# Altium footprint library con-molex-micro-fit-3_0.PCBLIB: 194 footprints (part 8 of 13)
Each footprint in its own frame and in the unit in brackets; x right, y up, seen from the top. Pads: shape width x height; smd on the part's side, far side on the other; paste and mask are expansions set on the pad; w line width, h text height; cw(c..) or ccw(c..) is an arc to the next point about the centre after c.
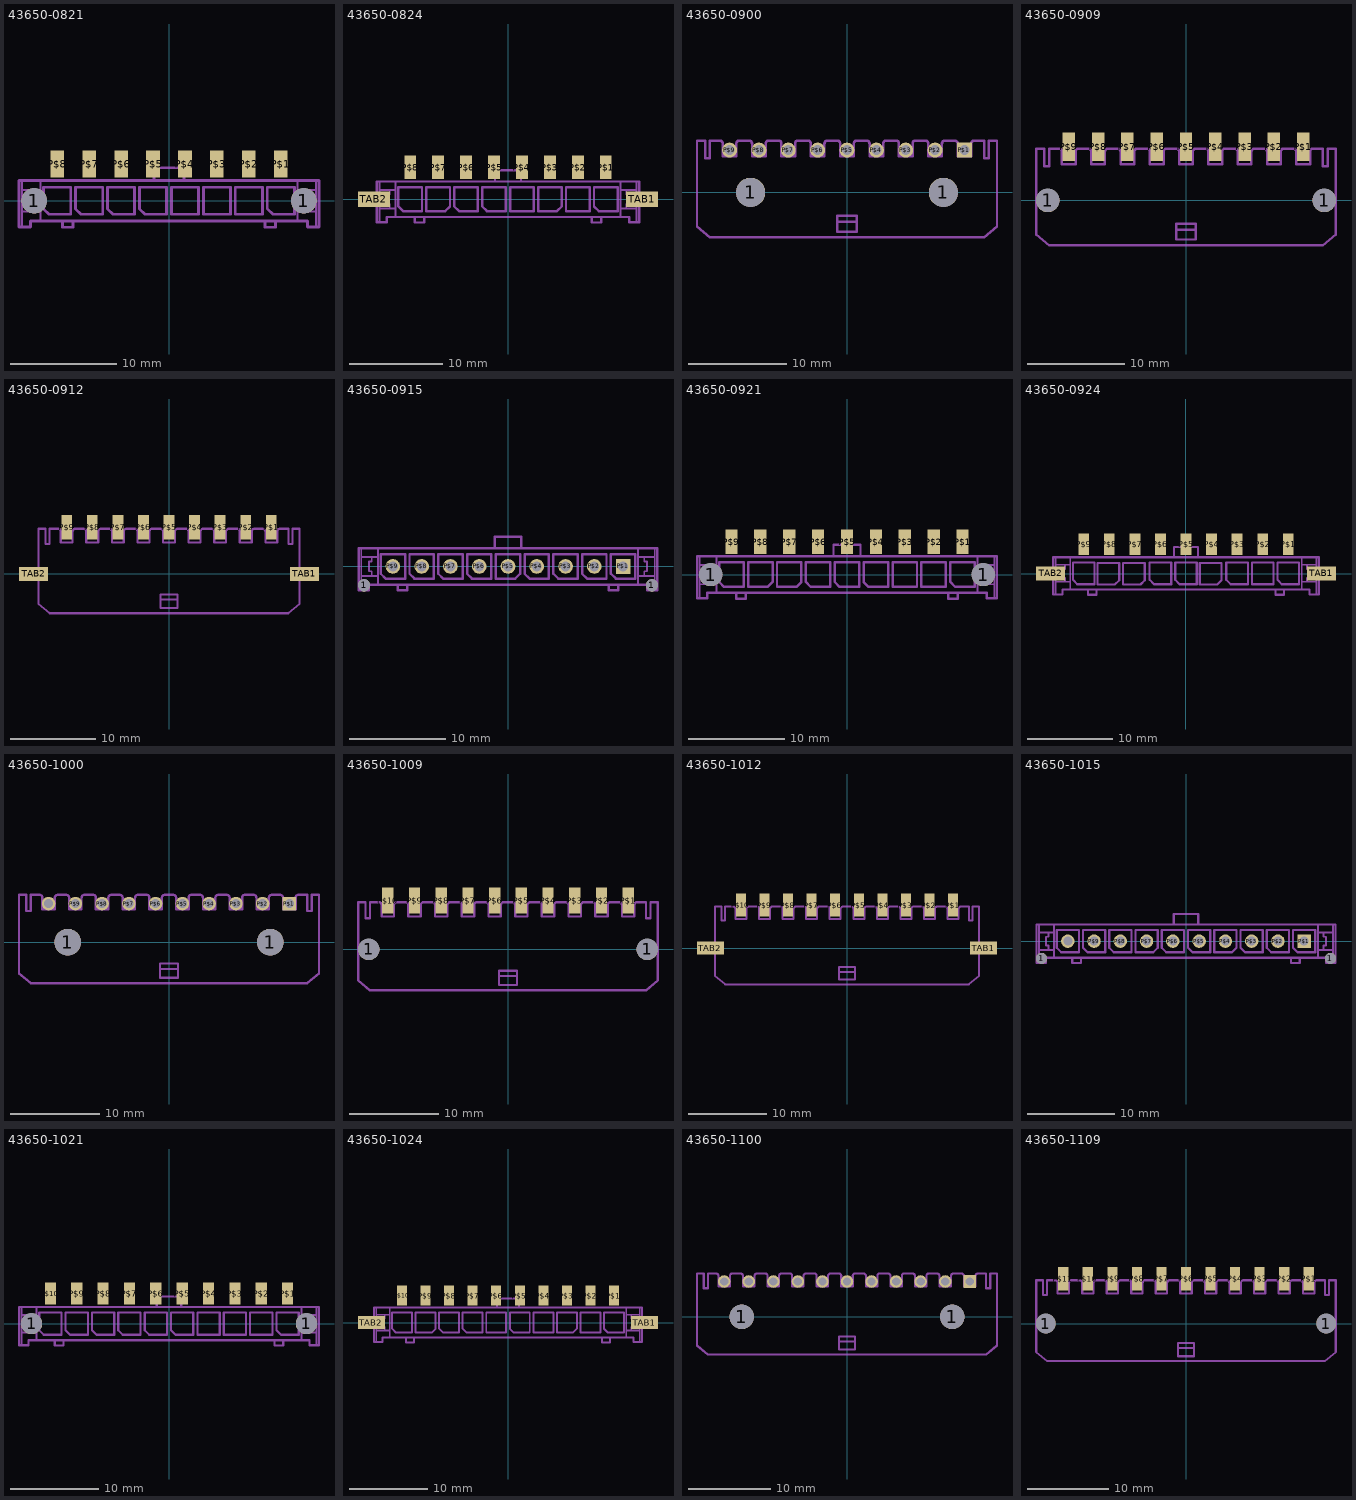
[diagram p7: the footprints below, top view; thin cyan lines are the x and y axes]

## 43650-0821 [mm]
pads (10):
  round 2.41 hole 2.41: 1(-12.65,0) 1(12.65,0)
  rect 1.27x2.54 smd: P$1(10.5,3.43) P$2(7.5,3.43) P$3(4.5,3.43) P$4(1.5,3.43) P$5(-1.5,3.43) P$6(-4.5,3.43) P$7(-7.5,3.43) P$8(-10.5,3.43)
Mechanical 2:
  lines w0.2: -13.8,-2.47 -13.8,-1 ; -13.8,1.9 -13.8,1 ; -12.07,-1.9 -12.07,-1 ; -12.07,1.9 -12.07,1 ; 12.07,-1.9 12.07,-1 ; 12.07,1.9 12.07,1 ; 13.8,-2.47 13.8,-1 ; 13.8,1.9 13.8,1 ; -13.8,-1 -13.8,1 ; -13.8,-1 -12.7,-1 ; -13.8,1 -12.7,1 ; -12.7,-1 -12.07,-1 ; -12.7,-1 -12.7,-0.5 -13,-0.5 -13,0.5 -12.7,0.5 -12.7,1 ; -12.7,1 -12.07,1 ; -12.07,-1 -12.07,1 ; 12.07,-1 12.07,1 ; 12.07,-1 12.7,-1 ; 12.07,1 12.7,1 ; 12.7,-1 13.8,-1 ; 12.7,-1 12.7,-0.5 13,-0.5 13,0.5 12.7,0.5 12.7,1 ; 12.7,1 13.8,1 ; 13.8,-1 13.8,1
  lines w0.254: -10,-1.9 -9,-1.9 ; -10,-1.9 -12.07,-1.9 -13,-1.9 -13,-2.47 -13.8,-2.47 -14.075,-2.47 -14.075,1.9 -13.8,1.9 -12.07,1.9 -1.4,1.9 ; -10,-1.9 -10,-2.5 -9,-2.5 -9,-1.9 ; -9,-1.9 9,-1.9 ; -1.4,1.9 1.4,1.9 ; -1.4,1.9 -1.4,3.1 1.4,3.1 1.4,1.9 ; 1.4,1.9 12.07,1.9 13.8,1.9 14.075,1.9 14.075,-2.47 13.8,-2.47 13,-2.47 13,-1.9 12.07,-1.9 10,-1.9 ; 9,-1.9 10,-1.9 ; 9,-1.9 9,-2.5 10,-2.5 10,-1.9 ; -11.77,-0.762 -11.77,1.27 -9.23,1.27 -9.23,-1.27 -11.262,-1.27 -11.77,-0.762 ; -8.77,-0.762 -8.77,1.27 -6.23,1.27 -6.23,-1.27 -8.262,-1.27 -8.77,-0.762 ; -5.77,-0.762 -5.77,1.27 -3.23,1.27 -3.23,-1.27 -5.262,-1.27 -5.77,-0.762 ; -2.77,-0.762 -2.77,1.27 -0.23,1.27 -0.23,-1.27 -2.262,-1.27 -2.77,-0.762 ; 0.23,-1.27 2.77,-1.27 2.77,1.27 0.23,1.27 0.23,-1.27 ; 3.23,-1.27 5.77,-1.27 5.77,1.27 3.23,1.27 3.23,-1.27 ; 6.23,-1.27 8.77,-1.27 8.77,1.27 6.23,1.27 6.23,-1.27 ; 9.23,-0.762 9.23,1.27 11.77,1.27 11.77,-1.27 9.738,-1.27 9.23,-0.762

## 43650-0824 [mm]
pads (10):
  rect 1.27x2.54 smd: P$1(10.5,3.43) P$2(7.5,3.43) P$3(4.5,3.43) P$4(1.5,3.43) P$5(-1.5,3.43) P$6(-4.5,3.43) P$7(-7.5,3.43) P$8(-10.5,3.43)
  rect 3.43x1.65 smd: TAB1(14.39,0) TAB2(-14.39,0)
Mechanical 2:
  lines w0.2: -13.8,-2.47 -13.8,-1 ; -13.8,1.9 -13.8,1 ; -12.07,-1.9 -12.07,-1 ; -12.07,1.9 -12.07,1 ; 12.07,-1.9 12.07,-1 ; 12.07,1.9 12.07,1 ; 13.8,-2.47 13.8,-1 ; 13.8,1.9 13.8,1 ; -13.8,-1 -13.8,1 ; -13.8,-1 -12.7,-1 ; -13.8,1 -12.7,1 ; -12.7,-1 -12.07,-1 ; -12.7,-1 -12.7,-0.5 -13,-0.5 -13,0.5 -12.7,0.5 -12.7,1 ; -12.7,1 -12.07,1 ; -12.07,-1 -12.07,1 ; 12.07,-1 12.07,1 ; 12.07,-1 12.7,-1 ; 12.07,1 12.7,1 ; 12.7,-1 13.8,-1 ; 12.7,-1 12.7,-0.5 13,-0.5 13,0.5 12.7,0.5 12.7,1 ; 12.7,1 13.8,1 ; 13.8,-1 13.8,1
  lines w0.254: -10,-1.9 -9,-1.9 ; -10,-1.9 -12.07,-1.9 -13,-1.9 -13,-2.47 -13.8,-2.47 -14.075,-2.47 -14.075,1.9 -13.8,1.9 -12.07,1.9 -1.4,1.9 ; -10,-1.9 -10,-2.5 -9,-2.5 -9,-1.9 ; -9,-1.9 9,-1.9 ; -1.4,1.9 1.4,1.9 ; -1.4,1.9 -1.4,3.1 1.4,3.1 1.4,1.9 ; 1.4,1.9 12.07,1.9 13.8,1.9 14.075,1.9 14.075,-2.47 13.8,-2.47 13,-2.47 13,-1.9 12.07,-1.9 10,-1.9 ; 9,-1.9 10,-1.9 ; 9,-1.9 9,-2.5 10,-2.5 10,-1.9 ; -11.77,-0.762 -11.77,1.27 -9.23,1.27 -9.23,-1.27 -11.262,-1.27 -11.77,-0.762 ; -5.77,-0.762 -5.77,1.27 -3.23,1.27 -3.23,-1.27 -5.262,-1.27 -5.77,-0.762 ; -2.77,-0.762 -2.77,1.27 -0.23,1.27 -0.23,-1.27 -2.262,-1.27 -2.77,-0.762 ; 0.23,-1.27 2.77,-1.27 2.77,1.27 0.23,1.27 0.23,-1.27 ; 6.23,-1.27 8.77,-1.27 8.77,1.27 6.23,1.27 6.23,-1.27 ; 9.23,-0.762 9.23,1.27 11.77,1.27 11.77,-1.27 9.738,-1.27 9.23,-0.762
Mechanical 3:
  lines w0.254: -8.77,-1.27 -8.77,1.27 -6.23,1.27 -6.23,-0.762 -6.738,-1.27 -8.77,-1.27 ; 3.23,-1.27 3.23,1.27 5.77,1.27 5.77,-0.762 5.262,-1.27 3.23,-1.27

## 43650-0900 [mm]
pads (11):
  round 3 hole 3: 1(-9.85,0) 1(9.85,0)
  rect 1.53x1.53 hole 1.02: P$1(12,4.32)
  round 1.53 hole 1.02: P$2(9,4.32) P$3(6,4.32) P$4(3,4.32) P$5(0,4.32) P$6(-3,4.32) P$7(-6,4.32) P$8(-9,4.32) P$9(-12,4.32)
Mechanical 2:
  lines w0.254: -1,-3 -1,-4 1,-4 1,-3 ; -1,-3 -1,-2.4 1,-2.4 1,-3 ; -1,-3 1,-3 ; -15.32,-3.5 -15.32,5.3 -14.5,5.3 -14.5,3.5 -14,3.5 -14,5.3 -13,5.3 cw(c-13,5) -12.7,5 -12.7,3.7 -11.3,3.7 -11.3,5 cw(c-11,5) -11,5.3 -10,5.3 cw(c-10,5) -9.7,5 -9.7,3.7 -8.3,3.7 -8.3,5 cw(c-8,5) -8,5.3 -7,5.3 cw(c-7,5) -6.7,5 -6.7,3.7 -5.3,3.7 -5.3,5 cw(c-5,5) -5,5.3 -4,5.3 cw(c-4,5) -3.7,5 -3.7,3.7 -2.3,3.7 -2.3,5 cw(c-2,5) -2,5.3 -1,5.3 cw(c-1,5) -0.7,5 -0.7,3.7 0.7,3.7 0.7,5 cw(c1,5) 1,5.3 2,5.3 cw(c2,5) 2.3,5 2.3,3.7 3.7,3.7 3.7,5 cw(c4,5) 4,5.3 5,5.3 cw(c5,5) 5.3,5 5.3,3.7 6.7,3.7 6.7,5 cw(c7,5) 7,5.3 8,5.3 cw(c8,5) 8.3,5 8.3,3.7 9.7,3.7 9.7,5 cw(c10,5) 10,5.3 11,5.3 cw(c10.95,4.95) 11.3,5 11.3,3.7 12.7,3.7 12.7,5 cw(c13,5) 13,5.3 14,5.3 14,3.5 14.5,3.5 14.5,5.3 15.32,5.3 15.32,-3.5 14,-4.6 -14,-4.6 -15.32,-3.5

## 43650-0909 [mm]
pads (11):
  round 2.41 hole 2.41: 1(-14.15,0) 1(14.15,0)
  rect 1.27x2.92 smd: P$1(12,5.48) P$2(9,5.48) P$3(6,5.48) P$4(3,5.48) P$5(0,5.48) P$6(-3,5.48) P$7(-6,5.48) P$8(-9,5.48) P$9(-12,5.48)
Mechanical 2:
  lines w0.254: -1,-3 -1,-4 1,-4 1,-3 ; -1,-3 -1,-2.4 1,-2.4 1,-3 ; -1,-3 1,-3 ; -15.32,-3.5 -15.32,5.3 -14.5,5.3 -14.5,3.5 -14,3.5 -14,5.3 -13,5.3 cw(c-13,5) -12.7,5 -12.7,3.7 -11.3,3.7 -11.3,5 cw(c-11,5) -11,5.3 -10,5.3 cw(c-10,5) -9.7,5 -9.7,3.7 -8.3,3.7 -8.3,5 cw(c-8,5) -8,5.3 -7,5.3 cw(c-7,5) -6.7,5 -6.7,3.7 -5.3,3.7 -5.3,5 cw(c-5,5) -5,5.3 -4,5.3 cw(c-4,5) -3.7,5 -3.7,3.7 -2.3,3.7 -2.3,5 cw(c-2,5) -2,5.3 -1,5.3 cw(c-1,5) -0.7,5 -0.7,3.7 0.7,3.7 0.7,5 cw(c1,5) 1,5.3 2,5.3 cw(c2,5) 2.3,5 2.3,3.7 3.7,3.7 3.7,5 cw(c4,5) 4,5.3 5,5.3 cw(c5,5) 5.3,5 5.3,3.7 6.7,3.7 6.7,5 cw(c7,5) 7,5.3 8,5.3 cw(c8,5) 8.3,5 8.3,3.7 9.7,3.7 9.7,5 cw(c10,5) 10,5.3 11,5.3 cw(c10.95,4.95) 11.3,5 11.3,3.7 12.7,3.7 12.7,5 cw(c13,5) 13,5.3 14,5.3 14,3.5 14.5,3.5 14.5,5.3 15.32,5.3 15.32,-3.5 14,-4.6 -14,-4.6 -15.32,-3.5

## 43650-0912 [mm]
pads (11):
  rect 1.27x2.92 smd: P$1(12,5.48) P$2(9,5.48) P$3(6,5.48) P$4(3,5.48) P$5(0,5.48) P$6(-3,5.48) P$7(-6,5.48) P$8(-9,5.48) P$9(-12,5.48)
  rect 3.43x1.65 smd: TAB1(15.88,0) TAB2(-15.88,0)
Mechanical 2:
  lines w0.254: -1,-3 -1,-4 1,-4 1,-3 ; -1,-3 -1,-2.4 1,-2.4 1,-3 ; -1,-3 1,-3 ; -15.32,-3.5 -15.32,5.3 -14.5,5.3 -14.5,3.5 -14,3.5 -14,5.3 -13,5.3 cw(c-13,5) -12.7,5 -12.7,3.7 -11.3,3.7 -11.3,5 cw(c-11,5) -11,5.3 -10,5.3 cw(c-10,5) -9.7,5 -9.7,3.7 -8.3,3.7 -8.3,5 cw(c-8,5) -8,5.3 -7,5.3 cw(c-7,5) -6.7,5 -6.7,3.7 -5.3,3.7 -5.3,5 cw(c-5,5) -5,5.3 -4,5.3 cw(c-4,5) -3.7,5 -3.7,3.7 -2.3,3.7 -2.3,5 cw(c-2,5) -2,5.3 -1,5.3 cw(c-1,5) -0.7,5 -0.7,3.7 0.7,3.7 0.7,5 cw(c1,5) 1,5.3 2,5.3 cw(c2,5) 2.3,5 2.3,3.7 3.7,3.7 3.7,5 cw(c4,5) 4,5.3 5,5.3 cw(c5,5) 5.3,5 5.3,3.7 6.7,3.7 6.7,5 cw(c7,5) 7,5.3 8,5.3 cw(c8,5) 8.3,5 8.3,3.7 9.7,3.7 9.7,5 cw(c10,5) 10,5.3 11,5.3 cw(c10.95,4.95) 11.3,5 11.3,3.7 12.7,3.7 12.7,5 cw(c13,5) 13,5.3 14,5.3 14,3.5 14.5,3.5 14.5,5.3 15.32,5.3 15.32,-3.5 14,-4.6 -14,-4.6 -15.32,-3.5

## 43650-0915 [mm]
pads (11):
  round 1.27 hole 1.27: 1(-15,-1.96) 1(15,-1.96)
  rect 1.53x1.53 hole 1.02: P$1(12,0)
  round 1.53 hole 1.02: P$2(9,0) P$3(6,0) P$4(3,0) P$5(0,0) P$6(-3,0) P$7(-6,0) P$8(-9,0) P$9(-12,0)
Mechanical 2:
  lines w0.2: -15.3,-2.47 -15.3,-1 ; -15.3,1.9 -15.3,1 ; -13.57,-1.9 -13.57,-1 ; -13.57,1.9 -13.57,1 ; 13.57,-1.9 13.57,-1 ; 13.57,1.9 13.57,1 ; 15.3,-2.47 15.3,-1 ; 15.3,1.9 15.3,1 ; -15.3,-1 -15.3,1 ; -15.3,-1 -14.2,-1 ; -15.3,1 -14.2,1 ; -14.2,-1 -13.57,-1 ; -14.2,-1 -14.2,-0.5 -14.5,-0.5 -14.5,0.5 -14.2,0.5 -14.2,1 ; -14.2,1 -13.57,1 ; -13.57,-1 -13.57,1 ; 13.57,-1 13.57,1 ; 13.57,-1 14.2,-1 ; 13.57,1 14.2,1 ; 14.2,-1 15.3,-1 ; 14.2,-1 14.2,-0.5 14.5,-0.5 14.5,0.5 14.2,0.5 14.2,1 ; 14.2,1 15.3,1 ; 15.3,-1 15.3,1
  lines w0.254: -11.5,-1.9 -10.5,-1.9 ; -11.5,-1.9 -13.57,-1.9 -14.5,-1.9 -14.5,-2.47 -15.3,-2.47 -15.575,-2.47 -15.575,1.9 -15.3,1.9 -13.57,1.9 -1.4,1.9 ; -11.5,-1.9 -11.5,-2.5 -10.5,-2.5 -10.5,-1.9 ; -10.5,-1.9 10.5,-1.9 ; -1.4,1.9 1.4,1.9 ; -1.4,1.9 -1.4,3.1 1.4,3.1 1.4,1.9 ; 1.4,1.9 13.57,1.9 15.3,1.9 15.575,1.9 15.575,-2.47 15.3,-2.47 14.5,-2.47 14.5,-1.9 13.57,-1.9 11.5,-1.9 ; 10.5,-1.9 11.5,-1.9 ; 10.5,-1.9 10.5,-2.5 11.5,-2.5 11.5,-1.9 ; -13.27,-0.762 -13.27,1.27 -10.73,1.27 -10.73,-1.27 -12.762,-1.27 -13.27,-0.762 ; -10.27,-0.762 -10.27,1.27 -7.73,1.27 -7.73,-1.27 -9.762,-1.27 -10.27,-0.762 ; -7.27,-0.762 -7.27,1.27 -4.73,1.27 -4.73,-1.27 -6.762,-1.27 -7.27,-0.762 ; -4.27,-0.762 -4.27,1.27 -1.73,1.27 -1.73,-1.27 -3.762,-1.27 -4.27,-0.762 ; -1.27,-1.27 -1.27,1.27 1.27,1.27 1.27,-0.762 0.762,-1.27 -1.27,-1.27 ; 1.73,-0.762 1.73,1.27 4.27,1.27 4.27,-1.27 2.238,-1.27 1.73,-0.762 ; 4.73,-0.762 4.73,1.27 7.27,1.27 7.27,-1.27 5.238,-1.27 4.73,-0.762 ; 7.73,-0.762 7.73,1.27 10.27,1.27 10.27,-1.27 8.238,-1.27 7.73,-0.762 ; 10.73,-0.762 10.73,1.27 13.27,1.27 13.27,-1.27 11.238,-1.27 10.73,-0.762

## 43650-0921 [mm]
pads (11):
  round 2.41 hole 2.41: 1(-14.15,0) 1(14.15,0)
  rect 1.27x2.54 smd: P$1(12,3.43) P$2(9,3.43) P$3(6,3.43) P$4(3,3.43) P$5(0,3.43) P$6(-3,3.43) P$7(-6,3.43) P$8(-9,3.43) P$9(-12,3.43)
Mechanical 2:
  lines w0.2: -15.3,-2.47 -15.3,-1 ; -15.3,1.9 -15.3,1 ; -13.57,-1.9 -13.57,-1 ; -13.57,1.9 -13.57,1 ; 13.57,-1.9 13.57,-1 ; 13.57,1.9 13.57,1 ; 15.3,-2.47 15.3,-1 ; 15.3,1.9 15.3,1 ; -15.3,-1 -15.3,1 ; -15.3,-1 -14.2,-1 ; -15.3,1 -14.2,1 ; -14.2,-1 -13.57,-1 ; -14.2,-1 -14.2,-0.5 -14.5,-0.5 -14.5,0.5 -14.2,0.5 -14.2,1 ; -14.2,1 -13.57,1 ; -13.57,-1 -13.57,1 ; 13.57,-1 13.57,1 ; 13.57,-1 14.2,-1 ; 13.57,1 14.2,1 ; 14.2,-1 15.3,-1 ; 14.2,-1 14.2,-0.5 14.5,-0.5 14.5,0.5 14.2,0.5 14.2,1 ; 14.2,1 15.3,1 ; 15.3,-1 15.3,1
  lines w0.254: -11.5,-1.9 -10.5,-1.9 ; -11.5,-1.9 -13.57,-1.9 -14.5,-1.9 -14.5,-2.47 -15.3,-2.47 -15.575,-2.47 -15.575,1.9 -15.3,1.9 -13.57,1.9 -1.4,1.9 ; -11.5,-1.9 -11.5,-2.5 -10.5,-2.5 -10.5,-1.9 ; -10.5,-1.9 10.5,-1.9 ; -1.4,1.9 1.4,1.9 ; -1.4,1.9 -1.4,3.1 1.4,3.1 1.4,1.9 ; 1.4,1.9 13.57,1.9 15.3,1.9 15.575,1.9 15.575,-2.47 15.3,-2.47 14.5,-2.47 14.5,-1.9 13.57,-1.9 11.5,-1.9 ; 10.5,-1.9 11.5,-1.9 ; 10.5,-1.9 10.5,-2.5 11.5,-2.5 11.5,-1.9 ; -13.27,-0.762 -13.27,1.27 -10.73,1.27 -10.73,-1.27 -12.762,-1.27 -13.27,-0.762 ; -10.27,-1.27 -10.27,1.27 -7.73,1.27 -7.73,-0.762 -8.238,-1.27 -10.27,-1.27 ; -7.27,-1.27 -7.27,1.27 -4.73,1.27 -4.73,-0.762 -5.238,-1.27 -7.27,-1.27 ; -4.27,-0.762 -4.27,1.27 -1.73,1.27 -1.73,-1.27 -3.762,-1.27 -4.27,-0.762 ; -1.27,-0.762 -1.27,1.27 1.27,1.27 1.27,-1.27 -0.762,-1.27 -1.27,-0.762 ; 1.73,-0.762 1.73,1.27 4.27,1.27 4.27,-1.27 2.238,-1.27 1.73,-0.762 ; 4.73,-1.27 7.27,-1.27 7.27,1.27 4.73,1.27 4.73,-1.27 ; 7.73,-1.27 10.27,-1.27 10.27,1.27 7.73,1.27 7.73,-1.27 ; 10.73,-0.762 10.73,1.27 13.27,1.27 13.27,-1.27 11.238,-1.27 10.73,-0.762

## 43650-0924 [mm]
pads (11):
  rect 1.27x2.54 smd: P$1(12.036,3.503) P$2(9.036,3.503) P$3(6.036,3.503) P$4(3.036,3.503) P$5(0.036,3.503) P$6(-2.964,3.503) P$7(-5.964,3.503) P$8(-8.964,3.503) P$9(-11.964,3.503)
  rect 3.43x1.65 smd: TAB1(15.926,0.073) TAB2(-15.854,0.073)
Mechanical 2:
  lines w0.2: -15.264,-2.397 -15.264,-0.927 ; -15.264,1.973 -15.264,1.073 ; -13.534,-1.827 -13.534,-0.927 ; -13.534,1.973 -13.534,1.073 ; 13.607,-1.827 13.607,-0.927 ; 13.607,1.973 13.607,1.073 ; 15.337,-2.397 15.337,-0.927 ; 15.337,1.973 15.337,1.073 ; -15.264,-0.927 -15.264,1.073 ; -15.264,-0.927 -14.164,-0.927 ; -15.264,1.073 -14.164,1.073 ; -14.164,-0.927 -13.534,-0.927 ; -14.164,-0.927 -14.164,-0.427 -14.464,-0.427 -14.464,0.573 -14.164,0.573 -14.164,1.073 ; -14.164,1.073 -13.534,1.073 ; -13.534,-0.927 -13.534,1.073 ; 13.607,-0.927 13.607,1.073 ; 13.607,-0.927 14.236,-0.927 ; 13.607,1.073 14.236,1.073 ; 14.236,-0.927 15.337,-0.927 ; 14.236,-0.927 14.236,-0.427 14.536,-0.427 14.536,0.573 14.236,0.573 14.236,1.073 ; 14.236,1.073 15.337,1.073 ; 15.337,-0.927 15.337,1.073
  lines w0.254: -11.464,-1.827 -10.464,-1.827 ; -11.464,-1.827 -13.534,-1.827 -14.464,-1.827 -14.464,-2.397 -15.264,-2.397 -15.539,-2.397 -15.539,1.973 -15.264,1.973 -13.534,1.973 -1.364,1.973 ; -11.464,-1.827 -11.464,-2.427 -10.464,-2.427 -10.464,-1.827 ; -10.464,-1.827 10.536,-1.827 ; -1.364,1.973 1.436,1.973 ; -1.364,1.973 -1.364,3.173 1.436,3.173 1.436,1.973 ; 1.436,1.973 13.607,1.973 15.337,1.973 15.611,1.973 15.611,-2.397 15.337,-2.397 14.536,-2.397 14.536,-1.827 13.607,-1.827 11.536,-1.827 ; 10.536,-1.827 11.536,-1.827 ; 10.536,-1.827 10.536,-2.427 11.536,-2.427 11.536,-1.827 ; -13.234,-0.689 -13.234,1.343 -10.694,1.343 -10.694,-1.197 -12.726,-1.197 -13.234,-0.689 ; -10.343,-1.234 -10.343,1.306 -7.803,1.306 -7.803,-0.726 -8.311,-1.234 -10.343,-1.234 ; -7.343,-1.234 -7.343,1.306 -4.803,1.306 -4.803,-0.726 -5.311,-1.234 -7.343,-1.234 ; -4.234,-0.689 -4.234,1.343 -1.694,1.343 -1.694,-1.197 -3.726,-1.197 -4.234,-0.689 ; -1.234,-0.689 -1.234,1.343 1.306,1.343 1.306,-1.197 -0.726,-1.197 -1.234,-0.689 ; 1.657,-1.234 1.657,1.306 4.197,1.306 4.197,-0.726 3.689,-1.234 1.657,-1.234 ; 4.766,-0.689 4.766,1.343 7.306,1.343 7.306,-1.197 5.274,-1.197 4.766,-0.689 ; 7.766,-1.197 10.306,-1.197 10.306,1.343 7.766,1.343 7.766,-1.197 ; 10.766,-0.689 10.766,1.343 13.306,1.343 13.306,-1.197 11.274,-1.197 10.766,-0.689

## 43650-1000 [mm]
pads (12):
  round 3 hole 3: 1(-11.35,0) 1(11.35,0)
  rect 1.53x1.53 hole 1.02: P$1(13.5,4.32)
  round 1.53 hole 1.02: P$2(10.5,4.32) P$3(7.5,4.32) P$4(4.5,4.32) P$5(1.5,4.32) P$6(-1.5,4.32) P$7(-4.5,4.32) P$8(-7.5,4.32) P$9(-10.5,4.32) P$10(-13.5,4.32)
Mechanical 2:
  lines w0.254: -1,-3 -1,-4 1,-4 1,-3 ; -1,-3 -1,-2.4 1,-2.4 1,-3 ; -1,-3 1,-3 ; -16.82,-3.5 -16.82,5.3 -16,5.3 -16,3.5 -15.5,3.5 -15.5,5.3 -14.5,5.3 cw(c-14.5,5) -14.2,5 -14.2,3.7 -12.8,3.7 -12.8,5 cw(c-12.5,5) -12.5,5.3 -11.5,5.3 cw(c-11.5,5) -11.2,5 -11.2,3.7 -9.8,3.7 -9.8,5 cw(c-9.5,5) -9.5,5.3 -8.5,5.3 cw(c-8.5,5) -8.2,5 -8.2,3.7 -6.8,3.7 -6.8,5 cw(c-6.5,5) -6.5,5.3 -5.5,5.3 cw(c-5.5,5) -5.2,5 -5.2,3.7 -3.8,3.7 -3.8,5 cw(c-3.5,5) -3.5,5.3 -2.5,5.3 cw(c-2.5,5) -2.2,5 -2.2,3.7 -0.8,3.7 -0.8,5 cw(c-0.5,5) -0.5,5.3 0.5,5.3 cw(c0.5,5) 0.8,5 0.8,3.7 2.2,3.7 2.2,5 cw(c2.5,5) 2.5,5.3 3.5,5.3 cw(c3.5,5) 3.8,5 3.8,3.7 5.2,3.7 5.2,5 cw(c5.5,5) 5.5,5.3 6.5,5.3 cw(c6.5,5) 6.8,5 6.8,3.7 8.2,3.7 8.2,5 cw(c8.5,5) 8.5,5.3 9.5,5.3 cw(c9.5,5) 9.8,5 9.8,3.7 11.2,3.7 11.2,5 cw(c11.5,5) 11.5,5.3 12.5,5.3 cw(c12.45,4.95) 12.8,5 12.8,3.7 14.2,3.7 14.2,5 cw(c14.5,5) 14.5,5.3 15.5,5.3 15.5,3.5 16,3.5 16,5.3 16.82,5.3 16.82,-3.5 15.5,-4.6 -15.5,-4.6 -16.82,-3.5

## 43650-1009 [mm]
pads (12):
  round 2.41 hole 2.41: 1(-15.65,0) 1(15.65,0)
  rect 1.27x2.92 smd: P$1(13.5,5.48) P$2(10.5,5.48) P$3(7.5,5.48) P$4(4.5,5.48) P$5(1.5,5.48) P$6(-1.5,5.48) P$7(-4.5,5.48) P$8(-7.5,5.48) P$9(-10.5,5.48) P$10(-13.5,5.48)
Mechanical 2:
  lines w0.254: -1,-3 -1,-4 1,-4 1,-3 ; -1,-3 -1,-2.4 1,-2.4 1,-3 ; -1,-3 1,-3 ; -16.82,-3.5 -16.82,5.3 -16,5.3 -16,3.5 -15.5,3.5 -15.5,5.3 -14.5,5.3 cw(c-14.5,5) -14.2,5 -14.2,3.7 -12.8,3.7 -12.8,5 cw(c-12.5,5) -12.5,5.3 -11.5,5.3 cw(c-11.5,5) -11.2,5 -11.2,3.7 -9.8,3.7 -9.8,5 cw(c-9.5,5) -9.5,5.3 -8.5,5.3 cw(c-8.5,5) -8.2,5 -8.2,3.7 -6.8,3.7 -6.8,5 cw(c-6.5,5) -6.5,5.3 -5.5,5.3 cw(c-5.5,5) -5.2,5 -5.2,3.7 -3.8,3.7 -3.8,5 cw(c-3.5,5) -3.5,5.3 -2.5,5.3 cw(c-2.5,5) -2.2,5 -2.2,3.7 -0.8,3.7 -0.8,5 cw(c-0.5,5) -0.5,5.3 0.5,5.3 cw(c0.5,5) 0.8,5 0.8,3.7 2.2,3.7 2.2,5 cw(c2.5,5) 2.5,5.3 3.5,5.3 cw(c3.5,5) 3.8,5 3.8,3.7 5.2,3.7 5.2,5 cw(c5.5,5) 5.5,5.3 6.5,5.3 cw(c6.5,5) 6.8,5 6.8,3.7 8.2,3.7 8.2,5 cw(c8.5,5) 8.5,5.3 9.5,5.3 cw(c9.5,5) 9.8,5 9.8,3.7 11.2,3.7 11.2,5 cw(c11.5,5) 11.5,5.3 12.5,5.3 cw(c12.45,4.95) 12.8,5 12.8,3.7 14.2,3.7 14.2,5 cw(c14.5,5) 14.5,5.3 15.5,5.3 15.5,3.5 16,3.5 16,5.3 16.82,5.3 16.82,-3.5 15.5,-4.6 -15.5,-4.6 -16.82,-3.5

## 43650-1012 [mm]
pads (12):
  rect 1.27x2.92 smd: P$1(13.5,5.48) P$2(10.5,5.48) P$3(7.5,5.48) P$4(4.5,5.48) P$5(1.5,5.48) P$6(-1.5,5.48) P$7(-4.5,5.48) P$8(-7.5,5.48) P$9(-10.5,5.48) P$10(-13.5,5.48)
  rect 3.43x1.65 smd: TAB1(17.38,0) TAB2(-17.38,0)
Mechanical 2:
  lines w0.254: -1,-3 -1,-4 1,-4 1,-3 ; -1,-3 -1,-2.4 1,-2.4 1,-3 ; -1,-3 1,-3 ; -16.82,-3.5 -16.82,5.3 -16,5.3 -16,3.5 -15.5,3.5 -15.5,5.3 -14.5,5.3 cw(c-14.5,5) -14.2,5 -14.2,3.7 -12.8,3.7 -12.8,5 cw(c-12.5,5) -12.5,5.3 -11.5,5.3 cw(c-11.5,5) -11.2,5 -11.2,3.7 -9.8,3.7 -9.8,5 cw(c-9.5,5) -9.5,5.3 -8.5,5.3 cw(c-8.5,5) -8.2,5 -8.2,3.7 -6.8,3.7 -6.8,5 cw(c-6.5,5) -6.5,5.3 -5.5,5.3 cw(c-5.5,5) -5.2,5 -5.2,3.7 -3.8,3.7 -3.8,5 cw(c-3.5,5) -3.5,5.3 -2.5,5.3 cw(c-2.5,5) -2.2,5 -2.2,3.7 -0.8,3.7 -0.8,5 cw(c-0.5,5) -0.5,5.3 0.5,5.3 cw(c0.5,5) 0.8,5 0.8,3.7 2.2,3.7 2.2,5 cw(c2.5,5) 2.5,5.3 3.5,5.3 cw(c3.5,5) 3.8,5 3.8,3.7 5.2,3.7 5.2,5 cw(c5.5,5) 5.5,5.3 6.5,5.3 cw(c6.5,5) 6.8,5 6.8,3.7 8.2,3.7 8.2,5 cw(c8.5,5) 8.5,5.3 9.5,5.3 cw(c9.5,5) 9.8,5 9.8,3.7 11.2,3.7 11.2,5 cw(c11.5,5) 11.5,5.3 12.5,5.3 cw(c12.45,4.95) 12.8,5 12.8,3.7 14.2,3.7 14.2,5 cw(c14.5,5) 14.5,5.3 15.5,5.3 15.5,3.5 16,3.5 16,5.3 16.82,5.3 16.82,-3.5 15.5,-4.6 -15.5,-4.6 -16.82,-3.5

## 43650-1015 [mil]
pads (12):
  round 50 hole 50: 1(-649.61,-77.17) 1(649.61,-77.17)
  rect 60.24x60.24 hole 40.16: P$1(531.5,0)
  round 60.24 hole 40.16: P$2(413.39,0) P$3(295.28,0) P$4(177.17,0) P$5(59.06,0) P$6(-59.06,0) P$7(-177.17,0) P$8(-295.28,0) P$9(-413.39,0) P$10(-531.5,0)
Mechanical 2:
  lines w7.87: -661.42,-97.24 -661.42,-39.37 ; -661.42,74.8 -661.42,39.37 ; -593.31,-74.8 -593.31,-39.37 ; -593.31,74.8 -593.31,39.37 ; 593.31,-74.8 593.31,-39.37 ; 593.31,74.8 593.31,39.37 ; 661.42,-97.24 661.42,-39.37 ; 661.42,74.8 661.42,39.37 ; -661.42,-39.37 -661.42,39.37 ; -661.42,-39.37 -618.11,-39.37 ; -661.42,39.37 -618.11,39.37 ; -618.11,-39.37 -593.31,-39.37 ; -618.11,-39.37 -618.11,-19.69 -629.92,-19.69 -629.92,19.69 -618.11,19.69 -618.11,39.37 ; -618.11,39.37 -593.31,39.37 ; -593.31,-39.37 -593.31,39.37 ; 593.31,-39.37 593.31,39.37 ; 593.31,-39.37 618.11,-39.37 ; 593.31,39.37 618.11,39.37 ; 618.11,-39.37 661.42,-39.37 ; 618.11,-39.37 618.11,-19.69 629.92,-19.69 629.92,19.69 618.11,19.69 618.11,39.37 ; 618.11,39.37 661.42,39.37 ; 661.42,-39.37 661.42,39.37
  lines w10: -511.81,-74.8 -472.44,-74.8 ; -511.81,-74.8 -593.31,-74.8 -629.92,-74.8 -629.92,-97.24 -661.42,-97.24 -672.24,-97.24 -672.24,74.8 -661.42,74.8 -593.31,74.8 -55.12,74.8 ; -511.81,-74.8 -511.81,-98.43 -472.44,-98.43 -472.44,-74.8 ; -472.44,-74.8 472.44,-74.8 ; -55.12,74.8 55.12,74.8 ; -55.12,74.8 -55.12,122.05 55.12,122.05 55.12,74.8 ; 55.12,74.8 593.31,74.8 661.42,74.8 672.24,74.8 672.24,-97.24 661.42,-97.24 629.92,-97.24 629.92,-74.8 593.31,-74.8 511.81,-74.8 ; 472.44,-74.8 511.81,-74.8 ; 472.44,-74.8 472.44,-98.43 511.81,-98.43 511.81,-74.8 ; -581.5,-30 -581.5,50 -481.5,50 -481.5,-50 -561.5,-50 -581.5,-30 ; -463.39,-30 -463.39,50 -363.39,50 -363.39,-50 -443.39,-50 -463.39,-30 ; -345.28,-30 -345.28,50 -245.28,50 -245.28,-50 -325.28,-50 -345.28,-30 ; -227.17,-50 -227.17,50 -127.17,50 -127.17,-30 -147.17,-50 -227.17,-50 ; -109.06,-30 -109.06,50 -9.06,50 -9.06,-50 -89.06,-50 -109.06,-30 ; 9.06,-30 9.06,50 109.06,50 109.06,-50 29.06,-50 9.06,-30 ; 127.17,-50 127.17,50 227.17,50 227.17,-30 207.17,-50 127.17,-50 ; 245.28,-30 245.28,50 345.28,50 345.28,-50 265.28,-50 245.28,-30 ; 363.39,-30 363.39,50 463.39,50 463.39,-50 383.39,-50 363.39,-30 ; 481.5,-30 481.5,50 581.5,50 581.5,-50 501.5,-50 481.5,-30

## 43650-1021 [mm]
pads (12):
  round 2.41 hole 2.41: 1(-15.65,0) 1(15.65,0)
  rect 1.27x2.54 smd: P$1(13.5,3.43) P$2(10.5,3.43) P$3(7.5,3.43) P$4(4.5,3.43) P$5(1.5,3.43) P$6(-1.5,3.43) P$7(-4.5,3.43) P$8(-7.5,3.43) P$9(-10.5,3.43) P$10(-13.5,3.43)
Mechanical 2:
  lines w0.2: -16.8,-2.47 -16.8,-1 ; -16.8,1.9 -16.8,1 ; -15.07,-1.9 -15.07,-1 ; -15.07,1.9 -15.07,1 ; 15.07,-1.9 15.07,-1 ; 15.07,1.9 15.07,1 ; 16.8,-2.47 16.8,-1 ; 16.8,1.9 16.8,1 ; -16.8,-1 -16.8,1 ; -16.8,-1 -15.7,-1 ; -16.8,1 -15.7,1 ; -15.7,-1 -15.07,-1 ; -15.7,-1 -15.7,-0.5 -16,-0.5 -16,0.5 -15.7,0.5 -15.7,1 ; -15.7,1 -15.07,1 ; -15.07,-1 -15.07,1 ; 15.07,-1 15.07,1 ; 15.07,-1 15.7,-1 ; 15.07,1 15.7,1 ; 15.7,-1 16.8,-1 ; 15.7,-1 15.7,-0.5 16,-0.5 16,0.5 15.7,0.5 15.7,1 ; 15.7,1 16.8,1 ; 16.8,-1 16.8,1
  lines w0.254: -13,-1.9 -12,-1.9 ; -13,-1.9 -15.07,-1.9 -16,-1.9 -16,-2.47 -16.8,-2.47 -17.075,-2.47 -17.075,1.9 -16.8,1.9 -15.07,1.9 -1.4,1.9 ; -13,-1.9 -13,-2.5 -12,-2.5 -12,-1.9 ; -12,-1.9 12,-1.9 ; -1.4,1.9 1.4,1.9 ; -1.4,1.9 -1.4,3.1 1.4,3.1 1.4,1.9 ; 1.4,1.9 15.07,1.9 16.8,1.9 17.075,1.9 17.075,-2.47 16.8,-2.47 16,-2.47 16,-1.9 15.07,-1.9 13,-1.9 ; 12,-1.9 13,-1.9 ; 12,-1.9 12,-2.5 13,-2.5 13,-1.9 ; -14.77,-0.762 -14.77,1.27 -12.23,1.27 -12.23,-1.27 -14.262,-1.27 -14.77,-0.762 ; -11.77,-0.762 -11.77,1.27 -9.23,1.27 -9.23,-1.27 -11.262,-1.27 -11.77,-0.762 ; -8.77,-0.762 -8.77,1.27 -6.23,1.27 -6.23,-1.27 -8.262,-1.27 -8.77,-0.762 ; -5.77,-0.762 -5.77,1.27 -3.23,1.27 -3.23,-1.27 -5.262,-1.27 -5.77,-0.762 ; -2.77,-0.762 -2.77,1.27 -0.23,1.27 -0.23,-1.27 -2.262,-1.27 -2.77,-0.762 ; 0.23,-0.762 0.23,1.27 2.77,1.27 2.77,-1.27 0.738,-1.27 0.23,-0.762 ; 3.23,-1.27 5.77,-1.27 5.77,1.27 3.23,1.27 3.23,-1.27 ; 6.23,-1.27 8.77,-1.27 8.77,1.27 6.23,1.27 6.23,-1.27 ; 9.23,-1.27 11.77,-1.27 11.77,1.27 9.23,1.27 9.23,-1.27 ; 12.23,-0.762 12.23,1.27 14.77,1.27 14.77,-1.27 12.738,-1.27 12.23,-0.762

## 43650-1024 [mm]
pads (12):
  rect 1.27x2.54 smd: P$1(13.5,3.43) P$2(10.5,3.43) P$3(7.5,3.43) P$4(4.5,3.43) P$5(1.5,3.43) P$6(-1.5,3.43) P$7(-4.5,3.43) P$8(-7.5,3.43) P$9(-10.5,3.43) P$10(-13.5,3.43)
  rect 3.43x1.65 smd: TAB1(17.39,0) TAB2(-17.39,0)
Mechanical 2:
  lines w0.2: -16.8,-2.47 -16.8,-1 ; -16.8,1.9 -16.8,1 ; -15.07,-1.9 -15.07,-1 ; -15.07,1.9 -15.07,1 ; 15.07,-1.9 15.07,-1 ; 15.07,1.9 15.07,1 ; 16.8,-2.47 16.8,-1 ; 16.8,1.9 16.8,1 ; -16.8,-1 -16.8,1 ; -16.8,-1 -15.7,-1 ; -16.8,1 -15.7,1 ; -15.7,-1 -15.07,-1 ; -15.7,-1 -15.7,-0.5 -16,-0.5 -16,0.5 -15.7,0.5 -15.7,1 ; -15.7,1 -15.07,1 ; -15.07,-1 -15.07,1 ; 15.07,-1 15.07,1 ; 15.07,-1 15.7,-1 ; 15.07,1 15.7,1 ; 15.7,-1 16.8,-1 ; 15.7,-1 15.7,-0.5 16,-0.5 16,0.5 15.7,0.5 15.7,1 ; 15.7,1 16.8,1 ; 16.8,-1 16.8,1
  lines w0.254: -13,-1.9 -12,-1.9 ; -13,-1.9 -15.07,-1.9 -16,-1.9 -16,-2.47 -16.8,-2.47 -17.075,-2.47 -17.075,1.9 -16.8,1.9 -15.07,1.9 -1.4,1.9 ; -13,-1.9 -13,-2.5 -12,-2.5 -12,-1.9 ; -12,-1.9 12,-1.9 ; -1.4,1.9 1.4,1.9 ; -1.4,1.9 -1.4,3.1 1.4,3.1 1.4,1.9 ; 1.4,1.9 15.07,1.9 16.8,1.9 17.075,1.9 17.075,-2.47 16.8,-2.47 16,-2.47 16,-1.9 15.07,-1.9 13,-1.9 ; 12,-1.9 13,-1.9 ; 12,-1.9 12,-2.5 13,-2.5 13,-1.9 ; -14.77,-0.762 -14.77,1.27 -12.23,1.27 -12.23,-1.27 -14.262,-1.27 -14.77,-0.762 ; -8.77,-0.762 -8.77,1.27 -6.23,1.27 -6.23,-1.27 -8.262,-1.27 -8.77,-0.762 ; -5.77,-0.762 -5.77,1.27 -3.23,1.27 -3.23,-1.27 -5.262,-1.27 -5.77,-0.762 ; -2.77,-1.27 -0.23,-1.27 -0.23,1.27 -2.77,1.27 -2.77,-1.27 ; 0.23,-0.762 0.23,1.27 2.77,1.27 2.77,-1.27 0.738,-1.27 0.23,-0.762 ; 3.23,-1.27 5.77,-1.27 5.77,1.27 3.23,1.27 3.23,-1.27 ; 9.23,-1.27 11.77,-1.27 11.77,1.27 9.23,1.27 9.23,-1.27 ; 12.23,-0.762 12.23,1.27 14.77,1.27 14.77,-1.27 12.738,-1.27 12.23,-0.762
Mechanical 3:
  lines w0.254: -11.77,-1.27 -11.77,1.27 -9.23,1.27 -9.23,-0.762 -9.738,-1.27 -11.77,-1.27 ; 6.23,-1.27 6.23,1.27 8.77,1.27 8.77,-0.762 8.262,-1.27 6.23,-1.27

## 43650-1100 [mm]
pads (13):
  round 3 hole 3: 1(-12.85,0) 1(12.85,0)
  rect 1.53x1.53 hole 1.02: P$1(15,4.32)
  round 1.53 hole 1.02: P$2(12,4.32) P$3(9,4.32) P$4(6,4.32) P$5(3,4.32) P$6(0,4.32) P$7(-3,4.32) P$8(-6,4.32) P$9(-9,4.32) P$10(-12,4.32) P$11(-15,4.32)
Mechanical 2:
  lines w0.254: -1,-3 -1,-4 1,-4 1,-3 ; -1,-3 -1,-2.4 1,-2.4 1,-3 ; -1,-3 1,-3 ; -18.32,-3.5 -18.32,5.3 -17.5,5.3 -17.5,3.5 -17,3.5 -17,5.3 -16,5.3 cw(c-16,5) -15.7,5 -15.7,3.7 -14.3,3.7 -14.3,5 cw(c-14,5) -14,5.3 -13,5.3 cw(c-13,5) -12.7,5 -12.7,3.7 -11.3,3.7 -11.3,5 cw(c-11,5) -11,5.3 -10,5.3 cw(c-10,5) -9.7,5 -9.7,3.7 -8.3,3.7 -8.3,5 cw(c-8,5) -8,5.3 -7,5.3 cw(c-7,5) -6.7,5 -6.7,3.7 -5.3,3.7 -5.3,5 cw(c-5,5) -5,5.3 -4,5.3 cw(c-4,5) -3.7,5 -3.7,3.7 -2.3,3.7 -2.3,5 cw(c-2,5) -2,5.3 -1,5.3 cw(c-1,5) -0.7,5 -0.7,3.7 0.7,3.7 0.7,5 cw(c1,5) 1,5.3 2,5.3 cw(c2,5) 2.3,5 2.3,3.7 3.7,3.7 3.7,5 cw(c4,5) 4,5.3 5,5.3 cw(c5,5) 5.3,5 5.3,3.7 6.7,3.7 6.7,5 cw(c7,5) 7,5.3 8,5.3 cw(c8,5) 8.3,5 8.3,3.7 9.7,3.7 9.7,5 cw(c10,5) 10,5.3 11,5.3 cw(c11,5) 11.3,5 11.3,3.7 12.7,3.7 12.7,5 cw(c13,5) 13,5.3 14,5.3 cw(c13.95,4.95) 14.3,5 14.3,3.7 15.7,3.7 15.7,5 cw(c16,5) 16,5.3 17,5.3 17,3.5 17.5,3.5 17.5,5.3 18.32,5.3 18.32,-3.5 17,-4.6 -17,-4.6 -18.32,-3.5

## 43650-1109 [mm]
pads (13):
  round 2.41 hole 2.41: 1(-17.15,0) 1(17.15,0)
  rect 1.27x2.92 smd: P$1(15,5.48) P$2(12,5.48) P$3(9,5.48) P$4(6,5.48) P$5(3,5.48) P$6(0,5.48) P$7(-3,5.48) P$8(-6,5.48) P$9(-9,5.48) P$10(-12,5.48) P$11(-15,5.48)
Mechanical 2:
  lines w0.254: -1,-3 -1,-4 1,-4 1,-3 ; -1,-3 -1,-2.4 1,-2.4 1,-3 ; -1,-3 1,-3 ; -18.32,-3.5 -18.32,5.3 -17.5,5.3 -17.5,3.5 -17,3.5 -17,5.3 -16,5.3 cw(c-16,5) -15.7,5 -15.7,3.7 -14.3,3.7 -14.3,5 cw(c-14,5) -14,5.3 -13,5.3 cw(c-13,5) -12.7,5 -12.7,3.7 -11.3,3.7 -11.3,5 cw(c-11,5) -11,5.3 -10,5.3 cw(c-10,5) -9.7,5 -9.7,3.7 -8.3,3.7 -8.3,5 cw(c-8,5) -8,5.3 -7,5.3 cw(c-7,5) -6.7,5 -6.7,3.7 -5.3,3.7 -5.3,5 cw(c-5,5) -5,5.3 -4,5.3 cw(c-4,5) -3.7,5 -3.7,3.7 -2.3,3.7 -2.3,5 cw(c-2,5) -2,5.3 -1,5.3 cw(c-1,5) -0.7,5 -0.7,3.7 0.7,3.7 0.7,5 cw(c1,5) 1,5.3 2,5.3 cw(c2,5) 2.3,5 2.3,3.7 3.7,3.7 3.7,5 cw(c4,5) 4,5.3 5,5.3 cw(c5,5) 5.3,5 5.3,3.7 6.7,3.7 6.7,5 cw(c7,5) 7,5.3 8,5.3 cw(c8,5) 8.3,5 8.3,3.7 9.7,3.7 9.7,5 cw(c10,5) 10,5.3 11,5.3 cw(c11,5) 11.3,5 11.3,3.7 12.7,3.7 12.7,5 cw(c13,5) 13,5.3 14,5.3 cw(c13.95,4.95) 14.3,5 14.3,3.7 15.7,3.7 15.7,5 cw(c16,5) 16,5.3 17,5.3 17,3.5 17.5,3.5 17.5,5.3 18.32,5.3 18.32,-3.5 17,-4.6 -17,-4.6 -18.32,-3.5